# EAGLE library part RELAY-DPDT (library Dek)
RELAY 2 x switch, Omron
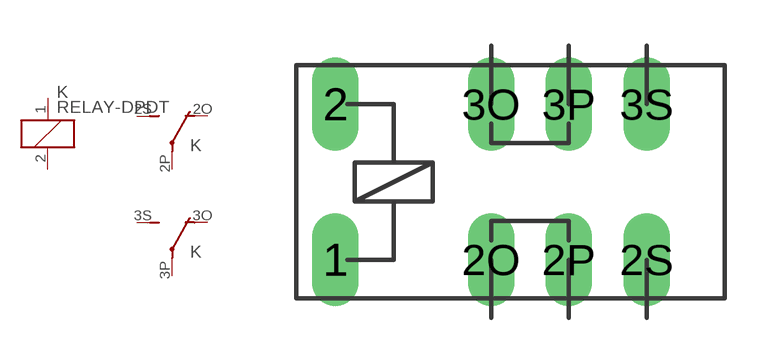
[diagram p8: symbol with the pads of D3423; footprint D3423]

Designator prefix K; gates 1=K-1 2=U 3=U

## RELAY-DPDT5V (OC_FARNELL: unknown; OC_NEWARK: unknown)  [D3423]
1  1:1  pas
2  1:2  pas
2O  2:O  pas
2P  2:P  pas
2S  2:S  pas
3O  3:O  pas
3P  3:P  pas
3S  3:S  pas

## Footprint D3423 (pad centres in mm)
RELAY 2 x switch, same as G5 V-2, Omron
drill 1.016 long: 1 -5.08,-2.54; 2 -5.08,2.54; 2O 0,-2.54; 2P 2.54,-2.54; 2S 5.08,-2.54; 3O 0,2.54; 3P 2.54,2.54; 3S 5.08,2.54